# Altium footprint library cs-movement-custom-lib.PCBLIB: 21 footprints (part 2 of 2)
Each footprint in its own frame and in the unit in brackets; x right, y up, seen from the top. Pads: shape width x height; smd on the part's side, far side on the other; paste and mask are expansions set on the pad; w line width, h text height; cw(c..) or ccw(c..) is an arc to the next point about the centre after c.
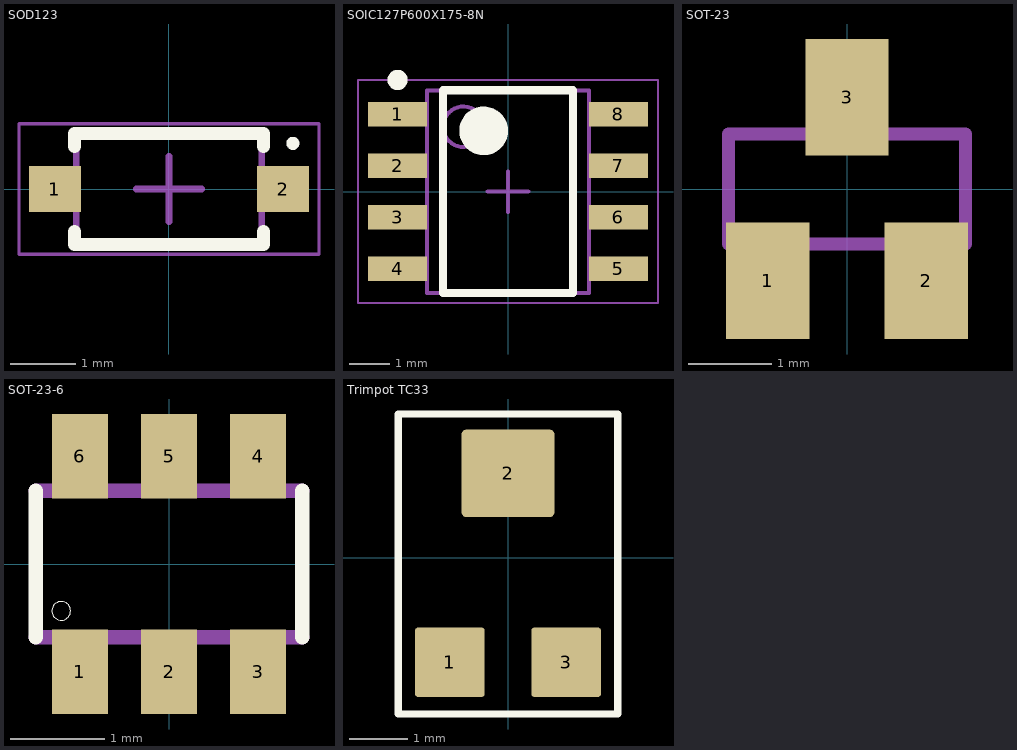
[diagram p1: the footprints below, top view; thin cyan lines are the x and y axes]

## SOD123 [mm] "SODFL, 2-Leads, Body 1.55x3.70mm, IPC Medium Density"
height 1.45
pads (2):
  rect 0.8x0.7 smd: 1(-1.75,0) 2(1.75,0)
Top Overlay:
  circle w0.1: c1.9,0.7 r0.05
  lines w0.2: -1.45,-0.65 -1.45,-0.85 1.45,-0.85 1.45,-0.65 ; -1.45,0.65 -1.45,0.85 1.45,0.85 1.45,0.65
Mechanical 13:
  lines w0.1: -1.425,-0.85 -1.425,0.85 1.425,0.85 1.425,-0.85 -1.425,-0.85
Mechanical 15:
  lines w0.05: -2.3,-1 -2.3,1 2.3,1 2.3,-1 -2.3,-1
  lines w0.1: -0.5,0 0.5,0 ; 0,-0.5 0,0.5
3D body: height 1.45, standoff 0, extent -1.425,-0.85 1.425,0.85

## SOIC127P600X175-8N [mm] "SOIC, 8-Leads, Body 4.90x3.90mm, Pitch 1.27mm, IPC Medium Density"
height 1.75
pads (8):
  rect 1.45x0.6 smd: 1(-2.725,1.905) 2(-2.725,0.635) 3(-2.725,-0.635) 4(-2.725,-1.905) 5(2.725,-1.905) 6(2.725,-0.635) 7(2.725,0.635) 8(2.725,1.905)
Top Overlay:
  circle w0.6: c-0.6,1.5 r0.3
  circle w0.25: c-2.725,2.755 r0.125
  lines w0.2: -1.6,-2.5 1.6,-2.5 1.6,2.5 -1.6,2.5 -1.6,-2.5
Mechanical 13:
  circle w0.1: c-1.1,1.6 r0.5
  lines w0.1: -2,-2.5 2,-2.5 2,2.5 -2,2.5 -2,-2.5
Mechanical 15:
  lines w0.05: -3.7,-2.75 3.7,-2.75 3.7,2.75 -3.7,2.75 -3.7,-2.75
  lines w0.1: -0.5,0 0.5,0 ; 0,-0.5 0,0.5
3D body "SOIC127P600X175-8N.step": height 1.75, standoff 0, extent -3,-2.5 3,2.5

## SOT-23 [mm]
pads (3):
  rect 1x1.4 smd: 1(-0.95,-1.1) 2(0.95,-1.1) 3(0,1.1)
Mechanical 16:
  rectangle: -0.229,0.711 0.229,1.295
  rectangle: 0.711,-1.295 1.168,-0.711
  rectangle: -1.168,-1.295 -0.711,-0.711
  lines w0.152: -1.422,-0.66 1.422,-0.66 1.422,0.66 -1.422,0.66 -1.422,-0.66

## SOT-23-6 [mil]
pads (6):
  rect 23.62x35.43 smd: 1(-37.4,-45.28) 2(0,-45.28) 3(37.4,-45.28) 4(37.4,45.28) 5(0,45.28) 6(-37.4,45.28)
Top Overlay:
  circle w0: c-45.28,-19.69 r3.94
  lines w6: -56.02,-30.75 -56.02,30.75 ; 55.98,-30.75 55.98,30.75
Mechanical 16:
  rectangle: -47.24,31.5 -27.56,55.12
  rectangle: -9.84,31.5 9.84,55.12
  rectangle: 27.56,31.5 47.24,55.12
  rectangle: 27.56,-55.12 47.24,-31.5
  rectangle: -9.84,-55.12 9.84,-31.5
  rectangle: -47.24,-55.12 -27.56,-31.5
  lines w6: -56.02,-30.75 55.98,-30.75 ; -56.02,30.75 55.98,30.75

## Trimpot TC33 [mm]
pads (3):
  rrect10% 1.2x1.2 smd: 1(-1,-1.8) 3(1,-1.8)
  rrect10% 1.6x1.5 smd: 2(0,1.45)
Top Overlay:
  lines w0.125: -1.89,-2.69 1.89,-2.69 1.89,2.47 -1.89,2.47 -1.89,-2.69